# Altium integrated library EG915UCNAB-N05-SNNSA.IntLib: 1 symbol
Pins are listed as number, name and electrical type; pins without a type are passive.

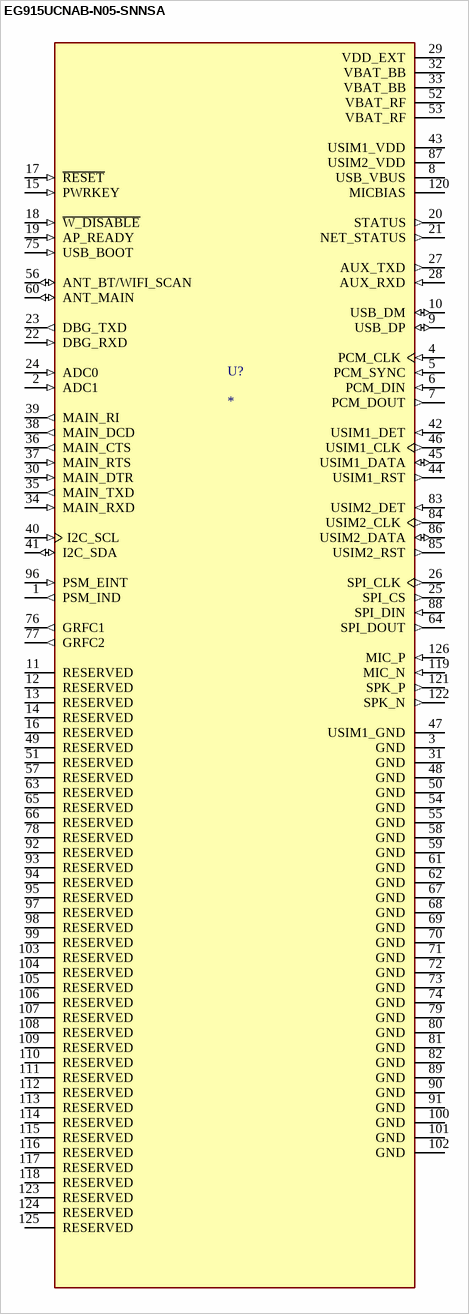
[diagram p0: symbol EG915UCNAB-N05-SNNSA]

## EG915UCNAB-N05-SNNSA
designator U?
Quectel EG91 is a series of LTE category 1 modules optimized specially for M2M and IoT applications. Adopting 3GPP Rel. 11 LTE technology, it delivers maximum data rates up to 10Mbps downlink and 5Mbps uplink; MP: EG915UCNAB-N05-SNNSA; Price: None; Value: *; Availability: Not in stock; MF: Quectel; Check_prices: https://www.snapeda.com/parts/EG915UCNAB-N05-SNNSA/Quectel/view-part/?ref=eda; SnapEDA_Link: https://www.snapeda.com/parts/EG915UCNAB-N05-SNNSA/Quectel/view-part/?ref=snap; Package: NON-STANDARD-126 Quectel
footprint XCVR_EG915UCNAB-N05-SNNSA
pins: 1 PSM_IND (out), 2 ADC1 (in), 3 GND (power), 4 PCM_CLK (in), 5 PCM_SYNC (in), 6 PCM_DIN (in), 7 PCM_DOUT (out), 8 USB_VBUS (power), 9 USB_DP (io), 10 USB_DM (io), 11 RESERVED, 12 RESERVED, 13 RESERVED, 14 RESERVED, 15 PWRKEY (in), 16 RESERVED, 17 ~{RESET} (in), 18 ~{W_DISABLE} (in), 19 AP_READY (in), 20 STATUS (out), 21 NET_STATUS (out), 22 DBG_RXD (in), 23 DBG_TXD (out), 24 ADC0 (in), 25 SPI_CS (out), 26 SPI_CLK (out), 27 AUX_TXD (out), 28 AUX_RXD (in), 29 VDD_EXT (power), 30 MAIN_DTR (in), 31 GND (power), 32 VBAT_BB (power), 33 VBAT_BB (power), 34 MAIN_RXD (in), 35 MAIN_TXD (out), 36 MAIN_CTS (out), 37 MAIN_RTS (in), 38 MAIN_DCD (out), 39 MAIN_RI (out), 40 I2C_SCL (in), 41 I2C_SDA (io), 42 USIM1_DET (in), 43 USIM1_VDD (power), 44 USIM1_RST (out), 45 USIM1_DATA (io), 46 USIM1_CLK (out), 47 USIM1_GND (power), 48 GND (power), 49 RESERVED, 50 GND (power), 51 RESERVED, 52 VBAT_RF (power), 53 VBAT_RF (power), 54 GND (power), 55 GND (power), 56 ANT_BT/WIFI_SCAN (io), 57 RESERVED, 58 GND (power), 59 GND (power), 60 ANT_MAIN (io), 61 GND (power), 62 GND (power), 63 RESERVED, 64 SPI_DOUT (out), 65 RESERVED, 66 RESERVED, 67 GND (power), 68 GND (power), 69 GND (power), 70 GND (power), 71 GND (power), 72 GND (power), 73 GND (power), 74 GND (power), 75 USB_BOOT (in), 76 GRFC1 (out), 77 GRFC2 (out), 78 RESERVED, 79 GND (power), 80 GND (power), 81 GND (power), 82 GND (power), 83 USIM2_DET (in), 84 USIM2_CLK (out), 85 USIM2_RST (out), 86 USIM2_DATA (io), 87 USIM2_VDD (power), 88 SPI_DIN (in), 89 GND (power), 90 GND (power), 91 GND (power), 92 RESERVED, 93 RESERVED, 94 RESERVED, 95 RESERVED, 96 PSM_EINT (in), 97 RESERVED, 98 RESERVED, 99 RESERVED, 100 GND (power), 101 GND (power), 102 GND (power), 103 RESERVED, 104 RESERVED, 105 RESERVED, 106 RESERVED, 107 RESERVED, 108 RESERVED, 109 RESERVED, 110 RESERVED, 111 RESERVED, 112 RESERVED, 113 RESERVED, 114 RESERVED, 115 RESERVED, 116 RESERVED, 117 RESERVED, 118 RESERVED, 119 MIC_N (in), 120 MICBIAS (power), 121 SPK_P (out), 122 SPK_N (out), 123 RESERVED, 124 RESERVED, 125 RESERVED, 126 MIC_P (in)